# Altium footprint library PCB - CONNECTOR - MOLEX - MOLEX SDA-70553-2PIN.PCBLIB: 1 footprints
Each footprint in its own frame and in the unit in brackets; x right, y up, seen from the top. Pads: shape width x height; smd on the part's side, far side on the other; paste and mask are expansions set on the pad; w line width, h text height; cw(c..) or ccw(c..) is an arc to the next point about the centre after c.
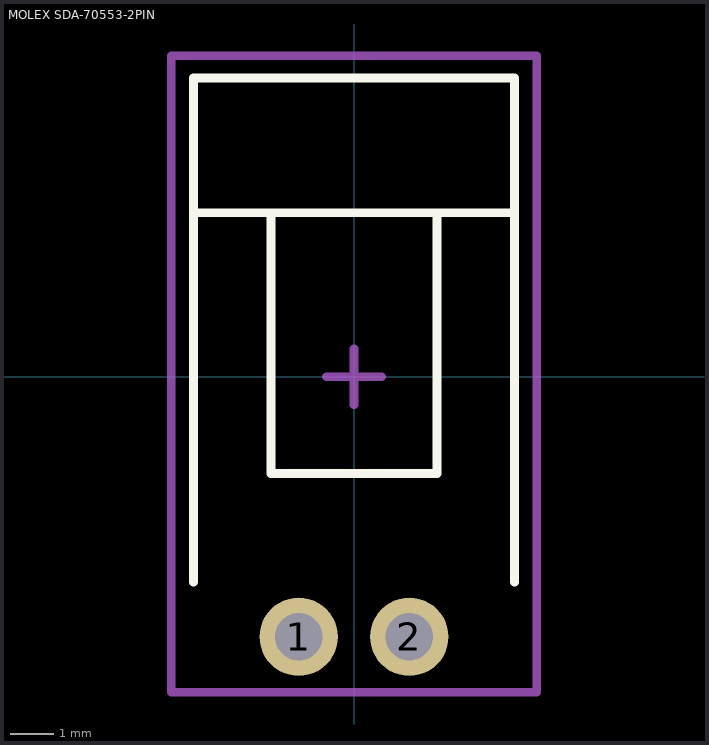
[diagram p0: the footprint, top view; thin cyan lines are the x and y axes]

## MOLEX SDA-70553-2PIN [mm] "SL Right angle header with latch, 0.100 centres, SDA-70553"
height 6.99
pads (2):
  round 1.8 hole 1.09: 1(-1.27,-5.969) 2(1.27,-5.969)
Top Overlay:
  lines w0.2: -3.683,-4.719 -3.683,6.858 3.683,6.858 3.683,-4.719 ; -3.627,3.765 3.683,3.765 ; -1.905,3.765 -1.905,-2.219 1.905,-2.219 1.905,3.765
Mechanical 15:
  lines w0.2: -0.635,0 0.635,0 ; 0,-0.635 0,0.635 ; -4.191,-7.239 4.191,-7.239 4.191,7.366 -4.191,7.366 -4.191,-7.239
3D body "705530001.STEP": height 6.96, standoff -3.32, extent -3.683,-6.719 3.683,6.87